# Altium schematic symbol library SCH - CONNECTORS - PHOENIX 1757242.Schlib: 1 symbol
Pins are listed as number, name and electrical type; pins without a type are passive.

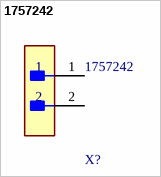
[diagram p0: symbol 1757242]

## 1757242
designator X?
pins: 1, 2